# Altium schematic symbol library CAT24C256HU4IGT3.Schlib: 1 symbol
Pins are listed as number, name and electrical type; pins without a type are passive.

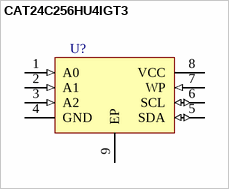
[diagram p0: symbol CAT24C256HU4IGT3]

## CAT24C256HU4IGT3
designator U?
EEPROM
pins: 1 A0 (in), 2 A1 (in), 3 A2 (in), 4 GND (power), 5 SDA (io), 6 SCL (io), 7 WP (in), 8 VCC (power), 9 EP